# Altium footprint library BB-HEADER-P16-P30.PcbLib: 1 footprints
Each footprint in its own frame and in the unit in brackets; x right, y up, seen from the top. Pads: shape width x height; smd on the part's side, far side on the other; paste and mask are expansions set on the pad; w line width, h text height; cw(c..) or ccw(c..) is an arc to the next point about the centre after c.
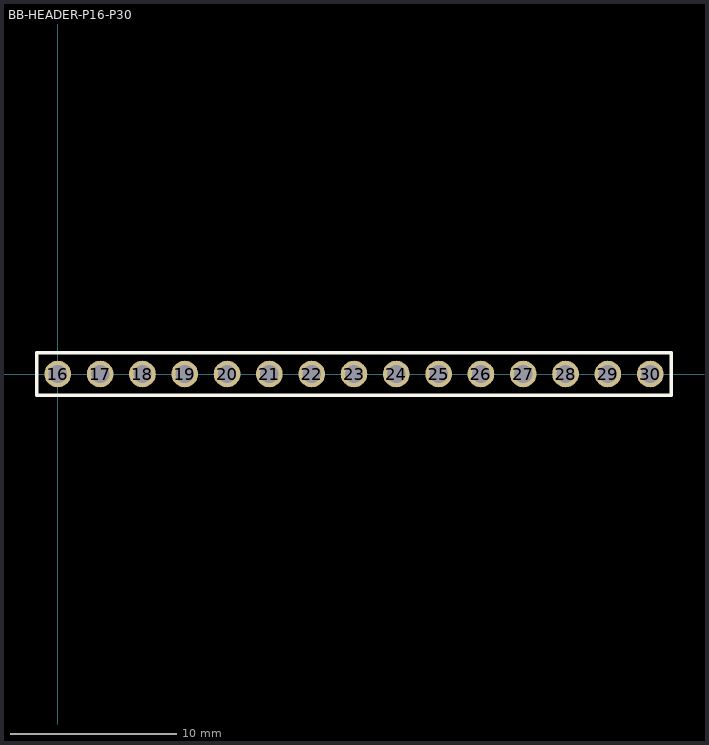
[diagram p0: the footprint, top view; thin cyan lines are the x and y axes]

## BB-HEADER-P16-P30 [mm] "BB Header, Vertical, Male, 0.1\", 2.54mm, P16-P30"
height 11.6
pads (15):
  round 1.6 hole 1.1: 16(0,0) 17(2.54,0) 18(5.08,0) 19(7.62,0) 20(10.16,0) 21(12.7,0) 22(15.24,0) 23(17.78,0) 24(20.32,0) 25(22.86,0) 26(25.4,0) 27(27.94,0) 28(30.48,0) 29(33.02,0) 30(35.56,0)
Top Overlay:
  lines w0.2: -1.27,-1.27 36.83,-1.27 36.83,1.27 0.635,1.27 -1.27,1.27 -1.27,-1.27
Mechanical 13:
  lines w0.1: -1.27,-1.27 -1.27,1.27 36.83,1.27 36.83,-1.27 -1.27,-1.27
Mechanical 15:
  lines w0.1: -1.32,-1.32 -1.32,1.32 36.88,1.32 36.88,-1.32 -1.32,-1.32
3D body: height 8.54, standoff -3, extent -1.27,-1.27 36.83,1.27